# Altium schematic symbol library diode_4.Schlib: 1 symbol
Pins are listed as number, name and electrical type; pins without a type are passive.

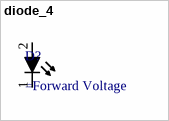
[diagram p0: symbol diode_4]

## diode_4
designator D?
Light Emitting Diode
pins: 1, 2